# EAGLE library part DIGITAL-ISOLATOR-1CH (library Gibbot v4)
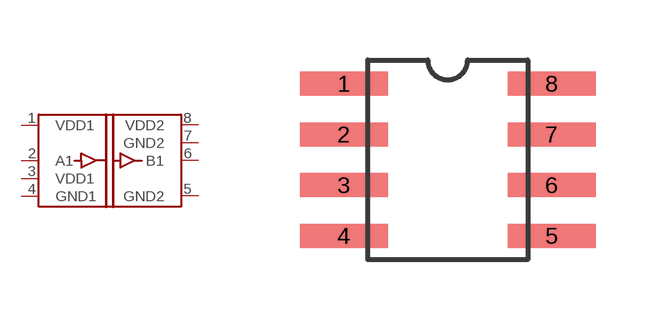
[diagram p14: symbol with the pads of SOIC8-N; footprint SOIC8-N]

Designator prefix -

## DIGITAL-ISOLATOR-1CHSOIC8-N  [SOIC8-N]
1  VDD1
2  A1
3  VDD1
4  GND1
5  GND2
6  B1
7  GND2
8  VDD2

## Footprint SOIC8-N (pad centres in mm)
smd 2.2 x 0.6: 1 -2.6,1.905; 2 -2.6,0.635; 3 -2.6,-0.635; 4 -2.6,-1.905; 5 2.6,-1.905; 6 2.6,-0.635; 7 2.6,0.635; 8 2.6,1.905